# Altium footprint library 17-Relays.PcbLib: 68 footprints (part 4 of 5)
Each footprint in its own frame and in the unit in brackets; x right, y up, seen from the top. Pads: shape width x height; smd on the part's side, far side on the other; paste and mask are expansions set on the pad; w line width, h text height; cw(c..) or ccw(c..) is an arc to the next point about the centre after c.
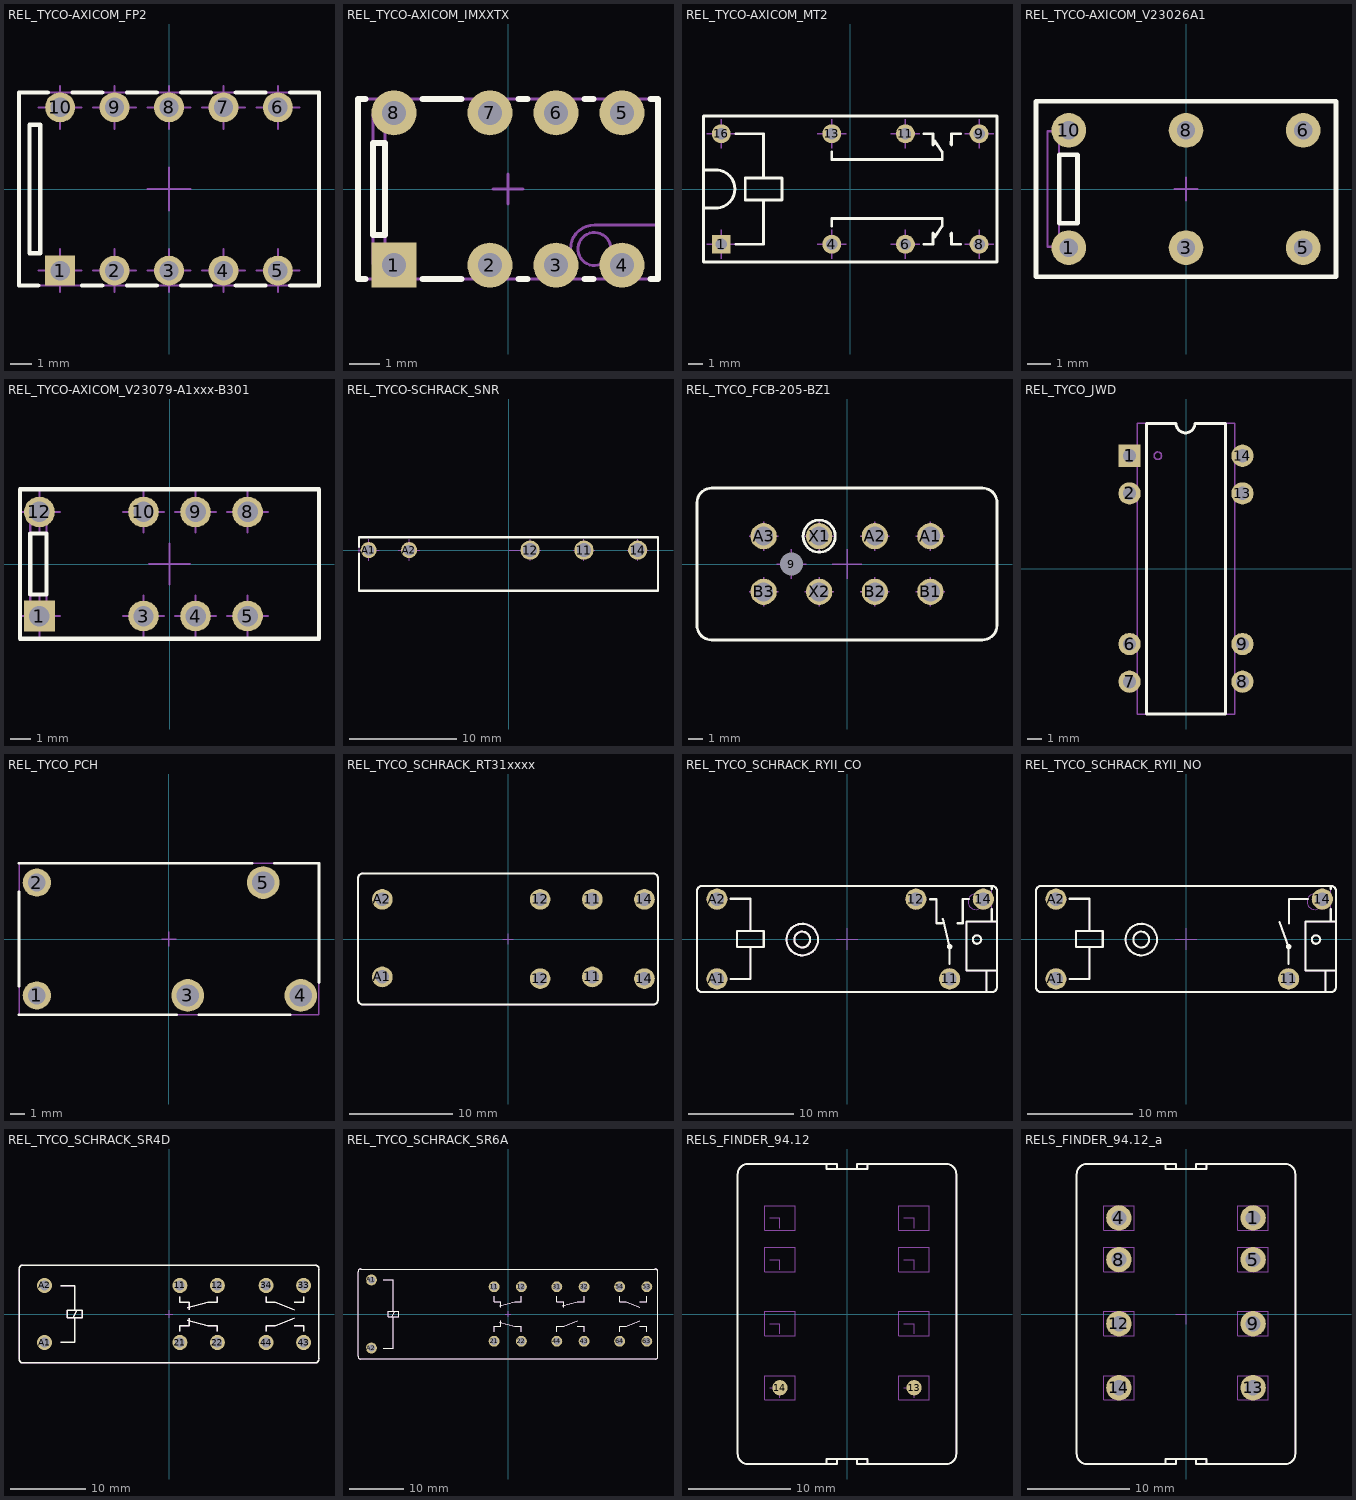
[diagram p3: the footprints below, top view; thin cyan lines are the x and y axes]

## REL_TYCO-AXICOM_FP2 [mm] "Relay, 10 Leads, Row Spacing 7.62 mm; Body 14mm x 9mm, AXICOM FP2 Serie"
height 5.1
pads (10):
  rect 1.4x1.4 hole 0.9: 1(-5.08,-3.81)
  round 1.4 hole 0.9: 2(-2.54,-3.81) 3(0,-3.81) 4(2.54,-3.81) 5(5.08,-3.81) 6(5.08,3.81) 7(2.54,3.81) 8(0,3.81) 9(-2.54,3.81) 10(-5.08,3.81)
Top Overlay:
  lines w0.2: -6.096,-4.5 -7,-4.5 -7,4.5 -5.658,4.5 ; -4.502,4.5 -3.118,4.5 ; -4.064,-4.5 -3.118,-4.5 ; -1.962,-4.5 -0.578,-4.5 ; -1.962,4.5 -0.578,4.5 ; 0.578,-4.5 1.962,-4.5 ; 0.578,4.5 1.962,4.5 ; 3.118,-4.5 4.502,-4.5 ; 3.118,4.5 4.502,4.5 ; 5.658,-4.5 7,-4.5 7,4.5 5.658,4.5 ; -6.51,-3 -6.51,3 -6.01,3 -6.01,-3 -6.51,-3
Mechanical 8:
  lines w0.1: -6.08,-3.81 -5.08,-3.81 ; -6.08,3.81 -5.08,3.81 ; -5.08,-4.81 -5.08,-3.81 ; -5.08,-2.81 -5.08,-3.81 ; -5.08,2.81 -5.08,3.81 ; -5.08,4.81 -5.08,3.81 ; -4.08,-3.81 -5.08,-3.81 ; -4.08,3.81 -5.08,3.81 ; -3.54,-3.81 -2.54,-3.81 ; -3.54,3.81 -2.54,3.81 ; -2.54,-4.81 -2.54,-3.81 ; -2.54,-2.81 -2.54,-3.81 ; -2.54,2.81 -2.54,3.81 ; -2.54,4.81 -2.54,3.81 ; -1.54,-3.81 -2.54,-3.81 ; -1.54,3.81 -2.54,3.81 ; -1,-3.81 0,-3.81 ; -1,0 0,0 ; -1,3.81 0,3.81 ; 0,-4.81 0,-3.81 ; 0,-2.81 0,-3.81 ; 0,-1 0,0 ; 0,1 0,0 ; 0,2.81 0,3.81 ; 0,4.81 0,3.81 ; 1,-3.81 0,-3.81 ; 1,0 0,0 ; 1,3.81 0,3.81 ; 1.54,-3.81 2.54,-3.81 ; 1.54,3.81 2.54,3.81 ; 2.54,-4.81 2.54,-3.81 ; 2.54,-2.81 2.54,-3.81 ; 2.54,2.81 2.54,3.81 ; 2.54,4.81 2.54,3.81 ; 3.54,-3.81 2.54,-3.81 ; 3.54,3.81 2.54,3.81 ; 4.08,-3.81 5.08,-3.81 ; 4.08,3.81 5.08,3.81 ; 5.08,-4.81 5.08,-3.81 ; 5.08,-2.81 5.08,-3.81 ; 5.08,2.81 5.08,3.81 ; 5.08,4.81 5.08,3.81 ; 6.08,-3.81 5.08,-3.81 ; 6.08,3.81 5.08,3.81
Mechanical 14:
  lines w0.1: -7,-4.5 -7,4.5 7,4.5 7,-4.5 -7,-4.5 ; -6.51,-3 -6.51,3 -6.01,3 -6.01,-3 -6.51,-3
3D body "REL_TYCO-AXICOM_FP2.stp": height 5.2, standoff -3.5, extent -7.01,-4.5 6.99,4.5

## REL_TYCO-AXICOM_IMXXTX [mm] "Relay, 8 Leads, Row Spacing 5.08 mm; Body 14.5mm x 7.2mm, AXICOM P2 Serie"
height 9.9
pads (8):
  rect 1.5x1.5 hole 0.8: 1(-3.8,-2.54)
  round 1.5 hole 0.8: 2(-0.6,-2.54) 3(1.6,-2.54) 4(3.8,-2.54) 5(3.8,2.54) 6(1.6,2.54) 7(-0.6,2.54) 8(-3.8,2.54)
Top Overlay:
  lines w0.2: -4.744,-3 -5,-3 -5,3 -4.744,3 ; -2.856,-3 -1.544,-3 ; -2.856,3 -1.544,3 ; 0.344,-3 0.656,-3 ; 0.344,3 0.656,3 ; 2.544,-3 2.856,-3 ; 2.544,3 2.856,3 ; 4.744,-3 5,-3 5,3 4.744,3 ; -4.5,-1.534 -4.1,-1.534 -4.1,1.534 -4.5,1.534 -4.5,-1.534
Mechanical 8:
  lines w0.1: -4.3,-2.54 -3.8,-2.54 ; -4.3,2.54 -3.8,2.54 ; -3.8,-3.04 -3.8,-2.54 ; -3.8,-2.04 -3.8,-2.54 ; -3.8,2.04 -3.8,2.54 ; -3.8,3.04 -3.8,2.54 ; -3.3,-2.54 -3.8,-2.54 ; -3.3,2.54 -3.8,2.54 ; -1.1,-2.54 -0.6,-2.54 ; -1.1,2.54 -0.6,2.54 ; -0.6,-3.04 -0.6,-2.54 ; -0.6,-2.04 -0.6,-2.54 ; -0.6,2.04 -0.6,2.54 ; -0.6,3.04 -0.6,2.54 ; -0.5,0 0,0 ; -0.1,-2.54 -0.6,-2.54 ; -0.1,2.54 -0.6,2.54 ; 0,-0.5 0,0 ; 0,0.5 0,0 ; 0.5,0 0,0 ; 1.1,-2.54 1.6,-2.54 ; 1.1,2.54 1.6,2.54 ; 1.6,-3.04 1.6,-2.54 ; 1.6,-2.04 1.6,-2.54 ; 1.6,2.04 1.6,2.54 ; 1.6,3.04 1.6,2.54 ; 2.1,-2.54 1.6,-2.54 ; 2.1,2.54 1.6,2.54 ; 3.3,-2.54 3.8,-2.54 ; 3.3,2.54 3.8,2.54 ; 3.8,-3.04 3.8,-2.54 ; 3.8,-2.04 3.8,-2.54 ; 3.8,2.04 3.8,2.54 ; 3.8,3.04 3.8,2.54 ; 4.3,-2.54 3.8,-2.54 ; 4.3,2.54 3.8,2.54
Mechanical 14:
  circle w0.1: c2.88,-2 r0.55
  lines w0.1: 2.08,-3 2.08,-2 cw(c2.88,-2) 2.88,-1.2 5,-1.2 ; -5,-3 -5,3 5,3 5,-3 -5,-3 ; -4.5,-2.5 -4.1,-2.5 -4.1,2.5 -4.5,2.5 -4.5,-2.5
3D body "REL_TYCO-AXICOM_IMXXTX.stp": height 5.65, standoff -2.6, extent -5,-3 5,3

## REL_TYCO-AXICOM_MT2 [mm] "8 Leads, Row Spacing 7.62 mm; Body 20.25mm x 10.05mm, AXICOM MT2 Serie"
height 11.2
pads (8):
  rect 1.3x1.3 hole 0.8: 1(-8.89,-3.81)
  round 1.3 hole 0.8: 4(-1.27,-3.81) 6(3.81,-3.81) 8(8.89,-3.81) 9(8.89,3.81) 11(3.81,3.81) 13(-1.27,3.81) 16(-8.89,3.81)
Top Overlay:
  lines w0.2: -10.125,-1.3 -9.125,-1.3 ccw(c-9.257,0) -9.125,1.3 -10.125,1.3 ; -7.874,-3.81 -5.969,-3.81 -5.969,-0.762 ; -7.874,3.81 -5.969,3.81 -5.969,0.762 ; -1.27,-2.54 -1.27,-2.032 6.35,-2.032 6.35,-2.54 5.842,-3.302 ; -1.27,2.54 -1.27,2.032 6.35,2.032 6.35,2.54 5.842,3.302 ; 5.08,-3.81 5.715,-3.81 5.715,-3.048 cw(c5.588,-3.175) 5.715,-3.302 ; 5.08,3.81 5.715,3.81 5.715,3.048 ccw(c5.588,3.175) 5.715,3.302 ; 6.985,-3.302 cw(c7.112,-3.175) 6.985,-3.048 6.985,-3.81 7.62,-3.81 ; 6.985,3.302 ccw(c7.112,3.175) 6.985,3.048 6.985,3.81 7.62,3.81 ; -10.125,-5.025 -10.125,5.025 10.125,5.025 10.125,-5.025 -10.125,-5.025 ; -7.239,-0.762 -4.699,-0.762 -4.699,0.762 -7.239,0.762 -7.239,-0.762
Mechanical 8:
  lines w0.1: -9.89,-3.81 -8.89,-3.81 ; -9.89,3.81 -8.89,3.81 ; -9.14,3.96 -8.64,3.66 ; -8.89,-4.81 -8.89,-3.81 ; -8.89,-2.81 -8.89,-3.81 ; -8.89,2.81 -8.89,3.81 ; -8.89,4.81 -8.89,3.81 ; -7.89,-3.81 -8.89,-3.81 ; -7.89,3.81 -8.89,3.81 ; -2.27,-3.81 -1.27,-3.81 ; -2.27,3.81 -1.27,3.81 ; -1.27,-4.81 -1.27,-3.81 ; -1.27,-2.81 -1.27,-3.81 ; -1.27,2.81 -1.27,3.81 ; -1.27,4.81 -1.27,3.81 ; -0.27,-3.81 -1.27,-3.81 ; -0.27,3.81 -1.27,3.81 ; 2.81,-3.81 3.81,-3.81 ; 2.81,3.81 3.81,3.81 ; 3.81,-4.81 3.81,-3.81 ; 3.81,-2.81 3.81,-3.81 ; 3.81,2.81 3.81,3.81 ; 3.81,4.81 3.81,3.81 ; 4.81,-3.81 3.81,-3.81 ; 4.81,3.81 3.81,3.81 ; 7.89,-3.81 8.89,-3.81 ; 7.89,3.81 8.89,3.81 ; 8.89,-4.81 8.89,-3.81 ; 8.89,-2.81 8.89,-3.81 ; 8.89,2.81 8.89,3.81 ; 8.89,4.81 8.89,3.81 ; 9.89,-3.81 8.89,-3.81 ; 9.89,3.81 8.89,3.81
Mechanical 14:
  lines w0.1: -10.125,-1.3 -9.125,-1.3 ccw(c-9.257,0) -9.125,1.3 -10.125,1.3 ; -7.874,-3.81 -5.969,-3.81 -5.969,-0.762 ; -7.874,3.81 -5.969,3.81 -5.969,0.762 ; -1.27,-2.54 -1.27,-2.032 6.35,-2.032 6.35,-2.54 5.842,-3.302 ; -1.27,2.54 -1.27,2.032 6.35,2.032 6.35,2.54 5.842,3.302 ; 5.08,-3.81 5.715,-3.81 5.715,-3.048 cw(c5.588,-3.175) 5.715,-3.302 ; 5.08,3.81 5.715,3.81 5.715,3.048 ccw(c5.588,3.175) 5.715,3.302 ; 6.985,-3.302 cw(c7.112,-3.175) 6.985,-3.048 6.985,-3.81 7.62,-3.81 ; 6.985,3.302 ccw(c7.112,3.175) 6.985,3.048 6.985,3.81 7.62,3.81 ; -10.125,-5.025 -10.125,5.025 10.125,5.025 10.125,-5.025 -10.125,-5.025 ; -7.239,-0.762 -4.699,-0.762 -4.699,0.762 -7.239,0.762 -7.239,-0.762
3D body "REL_TYCO-AXICOM_MT2.stp": height 11.7, standoff -3.5, extent -10.125,-5.025 10.125,5.025

## REL_TYCO-AXICOM_V23026A1 [mm] "Relay, 6 Leads, Row Spacing 5.08 mm; Body 13mm x 7.6mm, AXICOM V23026 Serie"
height 6.9
pads (6):
  round 1.5 hole 0.8: 1(-5.08,-2.54) 3(0,-2.54) 5(5.08,-2.54) 6(5.08,2.54) 8(0,2.54) 10(-5.08,2.54)
Top Overlay:
  lines w0.2: -6.5,-3.8 -6.5,3.8 6.5,3.8 6.5,-3.8 -6.5,-3.8 ; -5.5,-1.49 -5.5,1.49 -4.7,1.49 -4.7,-1.49 -5.5,-1.49
Mechanical 8:
  lines w0.1: -5.58,-2.54 -5.08,-2.54 ; -5.58,2.54 -5.08,2.54 ; -5.08,-3.04 -5.08,-2.54 ; -5.08,-2.04 -5.08,-2.54 ; -5.08,2.04 -5.08,2.54 ; -5.08,3.04 -5.08,2.54 ; -4.58,-2.54 -5.08,-2.54 ; -4.58,2.54 -5.08,2.54 ; -0.5,-2.54 0,-2.54 ; -0.5,0 0,0 ; -0.5,2.54 0,2.54 ; 0,-3.04 0,-2.54 ; 0,-2.04 0,-2.54 ; 0,-0.5 0,0 ; 0,0.5 0,0 ; 0,2.04 0,2.54 ; 0,3.04 0,2.54 ; 0.5,-2.54 0,-2.54 ; 0.5,0 0,0 ; 0.5,2.54 0,2.54 ; 4.58,-2.54 5.08,-2.54 ; 4.58,2.54 5.08,2.54 ; 5.08,-3.04 5.08,-2.54 ; 5.08,-2.04 5.08,-2.54 ; 5.08,2.04 5.08,2.54 ; 5.08,3.04 5.08,2.54 ; 5.58,-2.54 5.08,-2.54 ; 5.58,2.54 5.08,2.54
Mechanical 14:
  lines w0.1: -6.5,-3.8 -6.5,3.8 6.5,3.8 6.5,-3.8 -6.5,-3.8 ; -6,-2.5 -5.5,-2.5 -5.5,2.5 -6,2.5 -6,-2.5
3D body "REL_TYCO-AXICOM_V23026A1.stp": height 6.9, standoff -3.5, extent -6.5,-3.8 6.5,3.8

## REL_TYCO-AXICOM_V23079-A1xxx-B301 [mm] "Relay, 8 Leads, Row Spacing 5.08 mm; Body 14.5mm x 7.2mm, AXICOM P2 Serie"
height 9.9
pads (8):
  rect 1.5x1.5 hole 1: 1(-6.35,-2.54)
  round 1.5 hole 1: 3(-1.27,-2.54) 4(1.27,-2.54) 5(3.81,-2.54) 8(3.81,2.54) 9(1.27,2.54) 10(-1.27,2.54) 12(-6.35,2.54)
Top Overlay:
  lines w0.2: -7.3,-3.65 -7.3,3.65 7.3,3.65 7.3,-3.65 -7.3,-3.65 ; -6.8,-1.49 -6,-1.49 -6,1.49 -6.8,1.49 -6.8,-1.49
Mechanical 8:
  lines w0.1: -7.35,-2.54 -6.35,-2.54 ; -7.35,2.54 -6.35,2.54 ; -6.35,-3.54 -6.35,-2.54 ; -6.35,-1.54 -6.35,-2.54 ; -6.35,1.54 -6.35,2.54 ; -6.35,3.54 -6.35,2.54 ; -5.35,-2.54 -6.35,-2.54 ; -5.35,2.54 -6.35,2.54 ; -2.27,-2.54 -1.27,-2.54 ; -2.27,2.54 -1.27,2.54 ; -1.27,-3.54 -1.27,-2.54 ; -1.27,-1.54 -1.27,-2.54 ; -1.27,1.54 -1.27,2.54 ; -1.27,3.54 -1.27,2.54 ; -1,0 0,0 ; -0.27,-2.54 -1.27,-2.54 ; -0.27,2.54 -1.27,2.54 ; 0,-1 0,0 ; 0,1 0,0 ; 0.27,-2.54 1.27,-2.54 ; 0.27,2.54 1.27,2.54 ; 1,0 0,0 ; 1.27,-3.54 1.27,-2.54 ; 1.27,-1.54 1.27,-2.54 ; 1.27,1.54 1.27,2.54 ; 1.27,3.54 1.27,2.54 ; 2.27,-2.54 1.27,-2.54 ; 2.27,2.54 1.27,2.54 ; 2.81,-2.54 3.81,-2.54 ; 2.81,2.54 3.81,2.54 ; 3.81,-3.54 3.81,-2.54 ; 3.81,-1.54 3.81,-2.54 ; 3.81,1.54 3.81,2.54 ; 3.81,3.54 3.81,2.54 ; 4.81,-2.54 3.81,-2.54 ; 4.81,2.54 3.81,2.54
Mechanical 14:
  lines w0.1: -7.3,-3.65 7.3,-3.65 7.3,3.65 -7.3,3.65 -7.3,-3.65 ; -6.8,-2.5 -6.8,2.5 -6,2.5 -6,-2.5 -6.8,-2.5
3D body "REL_TYCO-AXICOM_V23079-A1xxx-B301.stp": height 9.9, standoff -3.8, extent -7.3,-3.65 7.3,3.65

## REL_TYCO-SCHRACK_SNR [mm] "5 Leads, Body 28.0 x 5mm, Slim PCB Relay SNR Serie"
height 15
pads (5):
  round 1.8 hole 1.3: 11(7.06,0) 12(2.02,0) 14(12.1,0)
  round 1.5 hole 1: A1(-13.1,0) A2(-9.32,0)
Top Overlay:
  lines w0.2: -14,-0.304 -14,-3.8 14,-3.8 14,1.2 -14,1.2 -14,0.304
Mechanical 8:
  lines w0.1: -14.1,0 -13.1,0 ; -13.1,-1 -13.1,0 ; -13.1,1 -13.1,0 ; -12.1,0 -13.1,0 ; -10.32,0 -9.32,0 ; -9.32,-1 -9.32,0 ; -9.32,1 -9.32,0 ; -8.32,0 -9.32,0 ; 0,0 2.02,0 ; 2.02,-1 2.02,0 ; 2.02,1 2.02,0 ; 3.02,0 2.02,0 ; 6.06,0 7.06,0 ; 7.06,-1 7.06,0 ; 7.06,1 7.06,0 ; 8.06,0 7.06,0 ; 11.1,0 12.1,0 ; 12.1,-1 12.1,0 ; 12.1,1 12.1,0 ; 13.1,0 12.1,0
Mechanical 14:
  lines w0.1: -14,-3.8 -14,1.2 14,1.2 14,-3.8 -14,-3.8
3D body "REL_TYCO-CHRACK_SNR.stp": height 15, standoff -3.5, extent -14,-3.8 14,1.2

## REL_TYCO_FCB-205-BZ1 [mm] "Relay, 8 Leads, Row Spacing 3.81 mm; Body 20.57mm x 10.41mm, AXICOM FCB-205-BZ1"
height 16.26
pads (9):
  round 1 hole 1.6 unplated mask+0.3: 9(-3.81,0)
  round 1.8 hole 1.3: A1(5.715,1.905) A2(1.905,1.905) A3(-5.715,1.905) B1(5.715,-1.905) B2(1.905,-1.905) B3(-5.715,-1.905) X1(-1.905,1.905) X2(-1.905,-1.905)
Top Overlay:
  circle w0.2: c-1.905,1.905 r1.1
  lines w0.2: -10.285,-4.205 ccw(c-9.285,-4.205) -9.285,-5.205 9.285,-5.205 ccw(c9.285,-4.205) 10.285,-4.205 10.285,4.205 ccw(c9.285,4.205) 9.285,5.205 -9.285,5.205 ccw(c-9.285,4.205) -10.285,4.205 -10.285,-4.205
Mechanical 8:
  lines w0.1: -6.715,-1.905 -5.715,-1.905 ; -6.715,1.905 -5.715,1.905 ; -5.715,-2.905 -5.715,-1.905 ; -5.715,-0.905 -5.715,-1.905 ; -5.715,0.905 -5.715,1.905 ; -5.715,2.905 -5.715,1.905 ; -4.81,0 -3.81,0 ; -4.715,-1.905 -5.715,-1.905 ; -4.715,1.905 -5.715,1.905 ; -3.81,-1 -3.81,0 ; -3.81,1 -3.81,0 ; -2.905,-1.905 -1.905,-1.905 ; -2.905,1.905 -1.905,1.905 ; -2.81,0 -3.81,0 ; -1.905,-2.905 -1.905,-1.905 ; -1.905,-0.905 -1.905,-1.905 ; -1.905,0.905 -1.905,1.905 ; -1.905,2.905 -1.905,1.905 ; -1,0 0,0 ; -0.905,-1.905 -1.905,-1.905 ; -0.905,1.905 -1.905,1.905 ; 0,-1 0,0 ; 0,1 0,0 ; 0.905,-1.905 1.905,-1.905 ; 0.905,1.905 1.905,1.905 ; 1,0 0,0 ; 1.905,-2.905 1.905,-1.905 ; 1.905,-0.905 1.905,-1.905 ; 1.905,0.905 1.905,1.905 ; 1.905,2.905 1.905,1.905 ; 2.905,-1.905 1.905,-1.905 ; 2.905,1.905 1.905,1.905 ; 4.715,-1.905 5.715,-1.905 ; 4.715,1.905 5.715,1.905 ; 5.715,-2.905 5.715,-1.905 ; 5.715,-0.905 5.715,-1.905 ; 5.715,0.905 5.715,1.905 ; 5.715,2.905 5.715,1.905 ; 6.715,-1.905 5.715,-1.905 ; 6.715,1.905 5.715,1.905
Mechanical 14:
  circle w0.1: c-1.905,1.905 r1.1
  circle w0.1: c-1.905,1.905 r0.52
  circle w0.1: c-3.81,0 r0.66
  circle w0.1: c-5.715,1.905 r0.52
  circle w0.1: c1.905,1.905 r0.52
  circle w0.1: c5.715,1.905 r0.52
  circle w0.1: c5.715,-1.905 r0.52
  circle w0.1: c1.905,-1.905 r0.52
  circle w0.1: c-1.905,-1.905 r0.52
  circle w0.1: c-5.715,-1.905 r0.52
  lines w0.1: -10.285,-4.205 ccw(c-9.285,-4.205) -9.285,-5.205 9.285,-5.205 ccw(c9.285,-4.205) 10.285,-4.205 10.285,4.205 ccw(c9.285,4.205) 9.285,5.205 -9.285,5.205 ccw(c-9.285,4.205) -10.285,4.205 -10.285,-4.205
3D body "REL_TYCO_FCB-205-BZ1.stp": height 16.26, standoff -3.4, extent -10.285,-5.205 10.285,5.205

## REL_TYCO_JWD [mm] "DIP 14 Leads, Row Spacing 7.62 mm; Pitch 2.54 mm"
height 8
pads (8):
  rect 1.5x1.5 hole 0.9: 1(-3.81,7.62)
  round 1.5 hole 0.9: 2(-3.81,5.08) 6(-3.81,-5.08) 7(-3.81,-7.62) 8(3.81,-7.62) 9(3.81,-5.08) 13(3.81,5.08) 14(3.81,7.62)
Top Overlay:
  lines w0.2: -0.685,9.8 -2.65,9.8 -2.65,-9.8 2.65,-9.8 2.65,9.8 ; -0.67,9.8 ccw(c-0.035,9.8) 0.6,9.8 2.615,9.8
Mechanical 14:
  circle w0.1: c-1.905,7.62 r0.254
  lines w0.1: -3.3,-9.8 -3.3,9.8 -0.67,9.8 ccw(c-0.035,9.8) 0.6,9.8 3.3,9.8 3.3,-9.8 -3.3,-9.8
3D body "REL_TYCO_JWD.stp": height 8, standoff -3.3, extent -3.935,-9.845 3.935,9.845

## REL_TYCO_PCH [mm] "5 Leads, Row Spacing 7.62 mm; Body 20mm x 10mm, TYCO PCH Serie"
height 15.2
pads (5):
  round 1.9 hole 1.2: 1(-8.9,-3.8) 2(-8.9,3.8)
  round 2.2 hole 1.5: 3(1.26,-3.8) 4(8.88,-3.8) 5(6.34,3.8)
Top Overlay:
  lines w0.2: -10.1,-5.1 0.512,-5.1 ; -10.1,-3.182 -10.1,3.182 ; -10.1,5.1 5.592,5.1 ; 2.008,-5.1 8.132,-5.1 ; 7.088,5.1 10.1,5.1 10.1,-2.927
Mechanical 8:
  lines w0.1: -9.4,-3.8 -8.9,-3.8 ; -9.4,3.8 -8.9,3.8 ; -8.9,-4.3 -8.9,-3.8 ; -8.9,-3.3 -8.9,-3.8 ; -8.9,3.3 -8.9,3.8 ; -8.9,4.3 -8.9,3.8 ; -8.4,-3.8 -8.9,-3.8 ; -8.4,3.8 -8.9,3.8 ; -0.5,0 0,0 ; 0,-0.5 0,0 ; 0,0.5 0,0 ; 0.5,0 0,0 ; 0.76,-3.8 1.26,-3.8 ; 1.26,-4.3 1.26,-3.8 ; 1.26,-3.3 1.26,-3.8 ; 1.76,-3.8 1.26,-3.8 ; 5.84,3.8 6.34,3.8 ; 6.34,3.3 6.34,3.8 ; 6.34,4.3 6.34,3.8 ; 6.84,3.8 6.34,3.8 ; 8.38,-3.8 8.88,-3.8 ; 8.88,-4.3 8.88,-3.8 ; 8.88,-3.3 8.88,-3.8 ; 9.38,-3.8 8.88,-3.8
Mechanical 14:
  lines w0.1: -10.1,-5.1 -10.1,5.1 10.1,5.1 10.1,-5.1 -10.1,-5.1
3D body "REL_TYCO_PCH.stp": height 15.2, standoff -3.8, extent -10.1,-5.1 10.1,5.1

## REL_TYCO_SCHRACK_RT31xxxx [mm] "8 Leads, Row Spacing 7.62 mm; Body 29mm x 12.7mm, TYCO RT Serie"
height 15.7
pads (8):
  round 2 hole 1.3: 11(8.15,-3.67) 11(8.15,3.83) 12(3.11,-3.83) 12(3.11,3.83) 14(13.19,-3.83) 14(13.19,3.83) A1(-12.15,-3.67) A2(-12.15,3.83)
Top Overlay:
  lines w0.2: -14.5,-5.85 ccw(c-14,-5.85) -14,-6.35 14,-6.35 ccw(c14,-5.85) 14.5,-5.85 14.5,5.85 ccw(c14,5.85) 14,6.35 -14,6.35 ccw(c-14,5.85) -14.5,5.85 -14.5,-5.85
Mechanical 8:
  lines w0.1: -12.65,-3.67 -12.15,-3.67 ; -12.65,3.83 -12.15,3.83 ; -12.15,-4.17 -12.15,-3.67 ; -12.15,-3.17 -12.15,-3.67 ; -12.15,3.33 -12.15,3.83 ; -12.15,4.33 -12.15,3.83 ; -11.65,-3.67 -12.15,-3.67 ; -11.65,3.83 -12.15,3.83 ; -0.5,0 0,0 ; 0,-0.5 0,0 ; 0,0.5 0,0 ; 0.5,0 0,0 ; 2.61,-3.83 3.11,-3.83 ; 2.61,3.83 3.11,3.83 ; 3.11,-4.33 3.11,-3.83 ; 3.11,-3.33 3.11,-3.83 ; 3.11,3.33 3.11,3.83 ; 3.11,4.33 3.11,3.83 ; 3.61,-3.83 3.11,-3.83 ; 3.61,3.83 3.11,3.83 ; 7.65,-3.67 8.15,-3.67 ; 7.65,3.83 8.15,3.83 ; 8.15,-4.17 8.15,-3.67 ; 8.15,-3.17 8.15,-3.67 ; 8.15,3.33 8.15,3.83 ; 8.15,4.33 8.15,3.83 ; 8.65,-3.67 8.15,-3.67 ; 8.65,3.83 8.15,3.83 ; 12.69,-3.83 13.19,-3.83 ; 12.69,3.83 13.19,3.83 ; 13.19,-4.33 13.19,-3.83 ; 13.19,-3.33 13.19,-3.83 ; 13.19,3.33 13.19,3.83 ; 13.19,4.33 13.19,3.83 ; 13.69,-3.83 13.19,-3.83 ; 13.69,3.83 13.19,3.83
Mechanical 14:
  lines w0.1: -14.5,-5.85 ccw(c-14,-5.85) -14,-6.35 14,-6.35 ccw(c14,-5.85) 14.5,-5.85 14.5,5.85 ccw(c14,5.85) 14,6.35 -14,6.35 ccw(c-14,5.85) -14.5,5.85 -14.5,-5.85
3D body "REL_TYCO_SCHRACK_RT314012.stp": height 15.7, standoff -3.6, extent -14.5,-6.35 14.5,6.35

## REL_TYCO_SCHRACK_RYII_CO [mm] "5 Leads, Row Spacing 7.62 mm; Body 28.5mm x 10.1mm, TYCO RYII Serie, CO Contact"
height 12.3
pads (5):
  round 2 hole 1.3: 11(9.75,-3.79) 12(6.55,3.79) 14(12.95,3.79) A1(-12.35,-3.79) A2(-12.35,3.79)
Top Overlay:
  circle w0.2: c9.75,-0.725 r0.159
  circle w0.2: c-4.25,-0.05 r0.75
  circle w0.2: c-4.25,-0.05 r1.5
  circle w0.2: c12.35,-0.05 r0.4
  lines w0.2: -11.084,-3.8 -9.179,-3.8 -9.179,-0.752 ; -11.084,3.82 -9.179,3.82 -9.179,0.772 ; 7.9,3.78 8.5,3.78 8.5,1.5 9,1.5 ; 9.1,1.9 9.75,-0.75 9.75,-2.39 ; 10.5,1.5 11,1.5 11,3.8 11.6,3.8 ; 13.25,-5.05 13.25,-3 ; 13.75,1.65 13.75,2.83 ; 13.75,4.75 13.75,5.043 ; 14.25,-3 11.35,-3 11.35,1.65 14.25,1.65 ; -14.25,-4.55 ccw(c-13.75,-4.55) -13.75,-5.05 13.75,-5.05 ccw(c13.75,-4.55) 14.25,-4.55 14.25,4.55 ccw(c13.75,4.55) 13.75,5.05 -13.75,5.05 ccw(c-13.75,4.55) -14.25,4.55 -14.25,-4.55 ; -10.449,-0.752 -10.449,0.772 -7.909,0.772 -7.909,-0.752 -10.449,-0.752
Mechanical 8:
  lines w0.1: -13.35,-3.79 -12.35,-3.79 ; -13.35,3.79 -12.35,3.79 ; -12.35,-4.79 -12.35,-3.79 ; -12.35,-2.79 -12.35,-3.79 ; -12.35,2.79 -12.35,3.79 ; -12.35,4.79 -12.35,3.79 ; -11.35,-3.79 -12.35,-3.79 ; -11.35,3.79 -12.35,3.79 ; -1,0 0,0 ; 0,-1 0,0 ; 0,1 0,0 ; 1,0 0,0 ; 5.55,3.79 6.55,3.79 ; 6.55,2.79 6.55,3.79 ; 6.55,4.79 6.55,3.79 ; 7.55,3.79 6.55,3.79 ; 8.75,-3.79 9.75,-3.79 ; 9.75,-4.79 9.75,-3.79 ; 9.75,-2.79 9.75,-3.79 ; 10.75,-3.79 9.75,-3.79 ; 11.95,3.79 12.95,3.79 ; 12.95,2.79 12.95,3.79 ; 12.95,4.79 12.95,3.79 ; 13.95,3.79 12.95,3.79
Mechanical 14:
  circle w0.1: c9.75,-0.725 r0.159
  circle w0.2: c-4.25,-0.05 r0.75
  circle w0.2: c-4.25,-0.05 r1.5
  circle w0.1: c12.35,-0.05 r0.4
  circle w0.1: c12.25,3.55 r0.75
  lines w0.1: -11.084,-3.8 -9.179,-3.8 -9.179,-0.752 ; -11.084,3.82 -9.179,3.82 -9.179,0.772 ; 7.9,3.78 8.5,3.78 8.5,1.5 9,1.5 ; 9.1,1.9 9.75,-0.75 9.75,-2.39 ; 10.5,1.5 11,1.5 11,3.8 11.6,3.8 ; 13.25,-5.05 13.25,-3 ; 13.75,1.65 13.75,5.043 ; 14.25,-3 11.35,-3 11.35,1.65 14.25,1.65 ; -14.25,-4.55 ccw(c-13.75,-4.55) -13.75,-5.05 13.75,-5.05 ccw(c13.75,-4.55) 14.25,-4.55 14.25,4.55 ccw(c13.75,4.55) 13.75,5.05 -13.75,5.05 ccw(c-13.75,4.55) -14.25,4.55 -14.25,-4.55 ; -10.449,-0.752 -10.449,0.772 -7.909,0.772 -7.909,-0.752 -10.449,-0.752
3D body "REL_TYCO_SCHRACK_RYII_CO.stp": height 12.3, standoff -3.2, extent -14.25,-5.05 14.25,5.05

## REL_TYCO_SCHRACK_RYII_NO [mm] "4 Leads, Row Spacing 7.62 mm; Body 28.5mm x 10.1mm, TYCO RYII Serie, NO Contact"
height 12.3
pads (4):
  round 2 hole 1.3: 11(9.75,-3.79) 14(12.95,3.79) A1(-12.35,-3.79) A2(-12.35,3.79)
Top Overlay:
  circle w0.2: c12.35,-0.05 r0.4
  circle w0.2: c-4.25,-0.05 r1.5
  circle w0.2: c-4.25,-0.05 r0.75
  circle w0.2: c9.75,-0.725 r0.159
  lines w0.2: -11.084,-3.8 -9.179,-3.8 -9.179,-0.752 ; -11.084,3.82 -9.179,3.82 -9.179,0.772 ; 8.9,1.6 9.75,-0.75 9.75,-2.39 ; 9.8,1.5 9.8,3.8 11.6,3.8 ; 13.25,-5.05 13.25,-3 ; 13.75,1.65 13.75,2.83 ; 13.75,4.75 13.75,5.043 ; 14.25,-3 11.35,-3 11.35,1.65 14.25,1.65 ; -14.25,-4.55 ccw(c-13.75,-4.55) -13.75,-5.05 13.75,-5.05 ccw(c13.75,-4.55) 14.25,-4.55 14.25,4.55 ccw(c13.75,4.55) 13.75,5.05 -13.75,5.05 ccw(c-13.75,4.55) -14.25,4.55 -14.25,-4.55 ; -10.449,-0.752 -7.909,-0.752 -7.909,0.772 -10.449,0.772 -10.449,-0.752
Mechanical 8:
  lines w0.1: -13.35,-3.79 -12.35,-3.79 ; -13.35,3.79 -12.35,3.79 ; -12.35,-4.79 -12.35,-3.79 ; -12.35,-2.79 -12.35,-3.79 ; -12.35,2.79 -12.35,3.79 ; -12.35,4.79 -12.35,3.79 ; -11.35,-3.79 -12.35,-3.79 ; -11.35,3.79 -12.35,3.79 ; -1,0 0,0 ; 0,-1 0,0 ; 0,1 0,0 ; 1,0 0,0 ; 8.75,-3.79 9.75,-3.79 ; 9.75,-4.79 9.75,-3.79 ; 9.75,-2.79 9.75,-3.79 ; 10.75,-3.79 9.75,-3.79 ; 11.95,3.79 12.95,3.79 ; 12.95,2.79 12.95,3.79 ; 12.95,4.79 12.95,3.79 ; 13.95,3.79 12.95,3.79
Mechanical 14:
  circle w0.1: c12.25,3.55 r0.75
  circle w0.1: c12.35,-0.05 r0.4
  circle w0.1: c-4.25,-0.05 r1.5
  circle w0.1: c-4.25,-0.05 r0.75
  circle w0.1: c9.75,-0.725 r0.159
  lines w0.1: -11.084,-3.8 -9.179,-3.8 -9.179,-0.752 ; -11.084,3.82 -9.179,3.82 -9.179,0.772 ; 8.9,1.6 9.75,-0.75 9.75,-2.39 ; 9.8,1.5 9.8,3.8 11.6,3.8 ; 13.25,-5.05 13.25,-3 ; 13.75,1.65 13.75,5.043 ; 14.25,-3 11.35,-3 11.35,1.65 14.25,1.65 ; -14.25,-4.55 ccw(c-13.75,-4.55) -13.75,-5.05 13.75,-5.05 ccw(c13.75,-4.55) 14.25,-4.55 14.25,4.55 ccw(c13.75,4.55) 13.75,5.05 -13.75,5.05 ccw(c-13.75,4.55) -14.25,4.55 -14.25,-4.55 ; -10.449,-0.752 -7.909,-0.752 -7.909,0.772 -10.449,0.772 -10.449,-0.752
3D body "REL_TYCO_SCHRACK_RYII_NO.stp": height 12.3, standoff -3.2, extent -14.25,-5 14.25,5.1

## REL_TYCO_SCHRACK_SR4D [mm] "10 Leads, Row Spacing 7.6 mm; Body 40mm x 13mm, TYCO SR4 Serie"
height 16.5
pads (10):
  round 2 hole 1.3: 11(1.45,3.8) 12(6.45,3.8) 21(1.45,-3.8) 22(6.45,-3.8) 33(17.95,3.8) 34(12.95,3.8) 43(17.95,-3.8) 44(12.95,-3.8) A1(-16.6,-3.8) A2(-16.6,3.8)
Top Overlay:
  lines w0.2: -14.41,-3.8 -12.55,-3.8 -12.55,-0.5 ; -14.41,3.8 -12.55,3.8 -12.55,0.5 ; -12.8,-0.5 -12.3,0.5 ; 1.45,-2.3 1.45,-1.55 2.7,-1.55 2.7,-0.55 ; 1.45,2.3 1.45,1.55 2.7,1.55 2.7,0.55 ; 2.45,-0.8 5.2,-1.55 6.45,-1.55 6.45,-2.3 ; 2.45,0.8 5.2,1.55 6.45,1.55 6.45,2.3 ; 12.95,-2.3 12.95,-1.55 14.2,-1.55 16.7,-0.55 ; 12.95,2.3 12.95,1.55 14.2,1.55 16.7,0.55 ; 16.7,-1.55 17.95,-1.55 17.95,-2.3 ; 16.7,1.55 17.95,1.55 17.95,2.3 ; -20,-6 ccw(c-19.5,-6) -19.5,-6.5 19.5,-6.5 ccw(c19.5,-6) 20,-6 20,6 ccw(c19.5,6) 19.5,6.5 -19.5,6.5 ccw(c-19.5,6) -20,6 -20,-6 ; -13.55,-0.5 -13.55,0.5 -11.55,0.5 -11.55,-0.5 -13.55,-0.5
Mechanical 8:
  lines w0.1: -17.1,-3.8 -16.6,-3.8 ; -17.1,3.8 -16.6,3.8 ; -16.6,-4.3 -16.6,-3.8 ; -16.6,-3.3 -16.6,-3.8 ; -16.6,3.3 -16.6,3.8 ; -16.6,4.3 -16.6,3.8 ; -16.1,-3.8 -16.6,-3.8 ; -16.1,3.8 -16.6,3.8 ; -0.5,0 0,0 ; 0,-0.5 0,0 ; 0,0.5 0,0 ; 0.5,0 0,0 ; 0.95,-3.8 1.45,-3.8 ; 0.95,3.8 1.45,3.8 ; 1.45,-4.3 1.45,-3.8 ; 1.45,-3.3 1.45,-3.8 ; 1.45,3.3 1.45,3.8 ; 1.45,4.3 1.45,3.8 ; 1.95,-3.8 1.45,-3.8 ; 1.95,3.8 1.45,3.8 ; 5.95,-3.8 6.45,-3.8 ; 5.95,3.8 6.45,3.8 ; 6.45,-4.3 6.45,-3.8 ; 6.45,-3.3 6.45,-3.8 ; 6.45,3.3 6.45,3.8 ; 6.45,4.3 6.45,3.8 ; 6.95,-3.8 6.45,-3.8 ; 6.95,3.8 6.45,3.8 ; 12.45,-3.8 12.95,-3.8 ; 12.45,3.8 12.95,3.8 ; 12.95,-4.3 12.95,-3.8 ; 12.95,-3.3 12.95,-3.8 ; 12.95,3.3 12.95,3.8 ; 12.95,4.3 12.95,3.8 ; 13.45,-3.8 12.95,-3.8 ; 13.45,3.8 12.95,3.8 ; 17.45,-3.8 17.95,-3.8 ; 17.45,3.8 17.95,3.8 ; 17.95,-4.3 17.95,-3.8 ; 17.95,-3.3 17.95,-3.8 ; 17.95,3.3 17.95,3.8 ; 17.95,4.3 17.95,3.8 ; 18.45,-3.8 17.95,-3.8 ; 18.45,3.8 17.95,3.8
Mechanical 14:
  lines w0.1: -14.41,-3.8 -12.55,-3.8 -12.55,-0.5 ; -14.41,3.8 -12.55,3.8 -12.55,0.5 ; -12.8,-0.5 -12.3,0.5 ; 1.45,-2.3 1.45,-1.55 2.7,-1.55 2.7,-0.55 ; 1.45,2.3 1.45,1.55 2.7,1.55 2.7,0.55 ; 2.45,-0.8 5.2,-1.55 6.45,-1.55 6.45,-2.3 ; 2.45,0.8 5.2,1.55 6.45,1.55 6.45,2.3 ; 12.95,-2.3 12.95,-1.55 14.2,-1.55 16.7,-0.55 ; 12.95,2.3 12.95,1.55 14.2,1.55 16.7,0.55 ; 16.7,-1.55 17.95,-1.55 17.95,-2.3 ; 16.7,1.55 17.95,1.55 17.95,2.3 ; -20,-6 ccw(c-19.5,-6) -19.5,-6.5 19.5,-6.5 ccw(c19.5,-6) 20,-6 20,6 ccw(c19.5,6) 19.5,6.5 -19.5,6.5 ccw(c-19.5,6) -20,6 -20,-6 ; -13.55,-0.5 -13.55,0.5 -11.55,0.5 -11.55,-0.5 -13.55,-0.5
3D body "REL_TYCO_SCHRACK_SR4D4024.stp": height 16.5, standoff -3.3, extent -20,-6.5 20,6.5

## REL_TYCO_SCHRACK_SR6A [mm] "14 Leads, Row Spacing 10mm; Body 55mm x 16.5mm, TYCO SR6 Serie"
height 16.5
pads (14):
  round 2 hole 1.3: 11(-2.55,5) 12(2.45,5) 21(-2.55,-5) 22(2.45,-5) 31(8.95,5) 32(13.95,5) 43(13.95,-5) 44(8.95,-5) 53(25.45,5) 54(20.45,5) 63(25.45,-5) 64(20.45,-5) A1(-25.05,6.25) A2(-25.05,-6.25)
Top Overlay:
  lines w0.2: -22.86,-6.25 -21,-6.25 -21,-0.5 ; -22.86,6.25 -21,6.25 -21,0.5 ; -21.25,-0.5 -20.75,0.5 ; -2.55,-3.25 -2.55,-2.25 -1.3,-2.25 -1.3,-1.25 ; -2.55,3.25 -2.55,2.25 -1.3,2.25 -1.3,1.25 ; -1.55,-1.5 1.2,-2.25 2.45,-2.25 2.45,-3.25 ; -1.55,1.5 1.2,2.25 2.45,2.25 2.45,3.25 ; 8.95,-3.25 8.95,-2.25 10.2,-2.25 12.7,-1.25 ; 8.95,3.25 8.95,2.25 10.2,2.25 10.2,1.25 ; 9.95,1.5 12.7,2.25 13.95,2.25 13.95,3.25 ; 12.7,-2.25 13.95,-2.25 13.95,-3.25 ; 20.45,-3.25 20.45,-2.25 21.7,-2.25 24.2,-1.25 ; 20.45,3.25 20.45,2.25 21.7,2.25 24.2,1.25 ; 24.2,-2.25 25.45,-2.25 25.45,-3.25 ; 24.2,2.25 25.45,2.25 25.45,3.25 ; -27.5,-7.75 ccw(c-27,-7.75) -27,-8.25 27,-8.25 ccw(c27,-7.75) 27.5,-7.75 27.5,7.75 ccw(c27,7.75) 27,8.25 -27,8.25 ccw(c-27,7.75) -27.5,7.75 -27.5,-7.75 ; -22,-0.5 -20,-0.5 -20,0.5 -22,0.5 -22,-0.5
Mechanical 8:
  lines w0.1: -25.55,-6.25 -25.05,-6.25 ; -25.55,6.25 -25.05,6.25 ; -25.05,-6.75 -25.05,-6.25 ; -25.05,-5.75 -25.05,-6.25 ; -25.05,5.75 -25.05,6.25 ; -25.05,6.75 -25.05,6.25 ; -24.55,-6.25 -25.05,-6.25 ; -24.55,6.25 -25.05,6.25 ; -3.05,-5 -2.55,-5 ; -3.05,5 -2.55,5 ; -2.55,-5.5 -2.55,-5 ; -2.55,-4.5 -2.55,-5 ; -2.55,4.5 -2.55,5 ; -2.55,5.5 -2.55,5 ; -2.05,-5 -2.55,-5 ; -2.05,5 -2.55,5 ; -0.5,0 0,0 ; 0,-0.5 0,0 ; 0,0.5 0,0 ; 0.5,0 0,0 ; 1.95,-5 2.45,-5 ; 1.95,5 2.45,5 ; 2.45,-5.5 2.45,-5 ; 2.45,-4.5 2.45,-5 ; 2.45,4.5 2.45,5 ; 2.45,5.5 2.45,5 ; 2.95,-5 2.45,-5 ; 2.95,5 2.45,5 ; 8.45,-5 8.95,-5 ; 8.45,5 8.95,5 ; 8.95,-5.5 8.95,-5 ; 8.95,-4.5 8.95,-5 ; 8.95,4.5 8.95,5 ; 8.95,5.5 8.95,5 ; 9.45,-5 8.95,-5 ; 9.45,5 8.95,5 ; 13.45,-5 13.95,-5 ; 13.45,5 13.95,5 ; 13.95,-5.5 13.95,-5 ; 13.95,-4.5 13.95,-5 ; 13.95,4.5 13.95,5 ; 13.95,5.5 13.95,5 ; 14.45,-5 13.95,-5 ; 14.45,5 13.95,5 ; 19.95,-5 20.45,-5 ; 19.95,5 20.45,5 ; 20.45,-5.5 20.45,-5 ; 20.45,-4.5 20.45,-5 ; 20.45,4.5 20.45,5 ; 20.45,5.5 20.45,5 ; 20.95,-5 20.45,-5 ; 20.95,5 20.45,5 ; 24.95,-5 25.45,-5 ; 24.95,5 25.45,5 ; 25.45,-5.5 25.45,-5 ; 25.45,-4.5 25.45,-5 ; 25.45,4.5 25.45,5 ; 25.45,5.5 25.45,5 ; 25.95,-5 25.45,-5 ; 25.95,5 25.45,5
Mechanical 14:
  lines w0.1: -22.86,-6.25 -21,-6.25 -21,-0.5 ; -22.86,6.25 -21,6.25 -21,0.5 ; -21.25,-0.5 -20.75,0.5 ; -2.55,-3.25 -2.55,-2.25 -1.3,-2.25 -1.3,-1.25 ; -2.55,3.25 -2.55,2.25 -1.3,2.25 -1.3,1.25 ; -1.55,-1.5 1.2,-2.25 2.45,-2.25 2.45,-3.25 ; -1.55,1.5 1.2,2.25 2.45,2.25 2.45,3.25 ; 8.95,-3.25 8.95,-2.25 10.2,-2.25 12.7,-1.25 ; 8.95,3.25 8.95,2.25 10.2,2.25 10.2,1.25 ; 9.95,1.5 12.7,2.25 13.95,2.25 13.95,3.25 ; 12.7,-2.25 13.95,-2.25 13.95,-3.25 ; 20.45,-3.25 20.45,-2.25 21.7,-2.25 24.2,-1.25 ; 20.45,3.25 20.45,2.25 21.7,2.25 24.2,1.25 ; 24.2,-2.25 25.45,-2.25 25.45,-3.25 ; 24.2,2.25 25.45,2.25 25.45,3.25 ; -27.5,-7.75 ccw(c-27,-7.75) -27,-8.25 27,-8.25 ccw(c27,-7.75) 27.5,-7.75 27.5,7.75 ccw(c27,7.75) 27,8.25 -27,8.25 ccw(c-27,7.75) -27.5,7.75 -27.5,-7.75 ; -22,-0.5 -22,0.5 -20,0.5 -20,-0.5 -22,-0.5
3D body "REL_TYCO_SCHRACK_SR6A6K24.stp": height 16.5, standoff -3.3, extent -27.5,-8.25 27.5,8.25

## RELS_FINDER_94.12 [mm] "Graphical Model for Relay Socket, FINDER_94.12 Serie (Do Not Use Alone, Use Only With Relay)"
height 11.5
pads (2):
  round 1.5 smd paste-0.76 mask-0.76: 13(6.6,-7.25) 14(-6.6,-7.25)
Top Overlay:
  lines w0.2: -2,-14.75 -2,-14.25 2,-14.25 2,-14.75 ; -2,14.75 -2,14.25 2,14.25 2,14.75 ; -1,-14.25 -1,-14.75 -9.75,-14.75 cw(c-9.75,-13.75) -10.75,-13.75 -10.75,13.75 cw(c-9.75,13.75) -9.75,14.75 -1,14.75 -1,14.25 ; 1,-14.25 1,-14.75 9.75,-14.75 ccw(c9.75,-13.75) 10.75,-13.75 10.75,13.75 ccw(c9.75,13.75) 9.75,14.75 1,14.75 1,14.25
Mechanical 8:
  lines w0.1: -7.6,-7.25 -6.6,-7.25 -6.6,-8.25 ; -7.6,-0.95 -6.6,-0.95 -6.6,-1.95 ; -7.6,5.35 -6.6,5.35 -6.6,4.35 ; -7.6,9.45 -6.6,9.45 -6.6,8.45 ; 5.6,-7.25 6.6,-7.25 6.6,-8.25 ; 5.6,-0.95 6.6,-0.95 6.6,-1.95 ; 5.6,5.35 6.6,5.35 6.6,4.35 ; 5.6,9.45 6.6,9.45 6.6,8.45
  text "A1" at 9.35,-8.25 h1.5
  text "11" at 9.35,-1.7 h1.5
  text "12" at 9.35,8.45 h1.5
  text "14" at 9.35,4.35 h1.5
  text "13" at 5.35,-8.25 h1.5
  text "9" at 5.35,-1.45 h1.5
  text "1" at 5.35,9.2 h1.5
  text "5" at 5.35,4.85 h1.5
  text "14" at -3.85,-8.25 h1.5
  text "12" at -3.85,-1.95 h1.5
  text "4" at -3.85,8.95 h1.5
  text "8" at -3.85,4.85 h1.5
  text "A2" at -7.85,-8.5 h1.5
  text "41" at -7.85,-1.95 h1.5
  text "42" at -7.85,8.2 h1.5
  text "44" at -7.85,4.1 h1.5
  text "Must be Used with FINDER 55.32 Relay" at 2.54,-12.7 h0.95
Mechanical 14:
  lines w0.1: -2,-14.75 -2,-14.25 2,-14.25 2,-14.75 ; -2,14.75 -2,14.25 2,14.25 2,14.75 ; -1,-14.25 -1,-14.75 -9.75,-14.75 cw(c-9.75,-13.75) -10.75,-13.75 -10.75,13.75 cw(c-9.75,13.75) -9.75,14.75 -1,14.75 -1,14.25 ; 1,-14.25 1,-14.75 9.75,-14.75 ccw(c9.75,-13.75) 10.75,-13.75 10.75,13.75 ccw(c9.75,13.75) 9.75,14.75 1,14.75 1,14.25 ; -8.101,-8.45 -5.101,-8.45 -5.101,-6.05 -8.101,-6.05 -8.101,-8.45 ; -8.101,-2.15 -5.101,-2.15 -5.101,0.25 -8.101,0.25 -8.101,-2.15 ; -8.101,4.15 -5.101,4.15 -5.101,6.55 -8.101,6.55 -8.101,4.15 ; -8.101,8.25 -5.101,8.25 -5.101,10.65 -8.101,10.65 -8.101,8.25 ; 5.1,-8.45 8.1,-8.45 8.1,-6.05 5.1,-6.05 5.1,-8.45 ; 5.1,-2.15 8.1,-2.15 8.1,0.25 5.1,0.25 5.1,-2.15 ; 5.1,4.15 8.1,4.15 8.1,6.55 5.1,6.55 5.1,4.15 ; 5.1,8.25 8.1,8.25 8.1,10.65 5.1,10.65 5.1,8.25
3D body "RELS_FINDER_94.12.stp": height 11.5, standoff -3.7, extent -10.749,-14.75 10.751,14.75

## RELS_FINDER_94.12_a [mm] "8 Leads Relay Socket, Row Spacing 13.2mm; Body 21.5mm x 29.5mm, FINDER_94.12 Serie (Use Only Without Relay)"
height 11.5
pads (8):
  round 2.5 hole 1.5: 1(6.6,9.45) 4(-6.6,9.45) 5(6.6,5.35) 8(-6.6,5.35) 9(6.6,-0.95) 12(-6.6,-0.95) 13(6.6,-7.25) 14(-6.6,-7.25)
Top Overlay:
  lines w0.2: -2,-14.75 -2,-14.25 2,-14.25 2,-14.75 ; -2,14.75 -2,14.25 2,14.25 2,14.75 ; -1,-14.25 -1,-14.75 -9.75,-14.75 cw(c-9.75,-13.75) -10.75,-13.75 -10.75,13.75 cw(c-9.75,13.75) -9.75,14.75 -1,14.75 -1,14.25 ; 1,-14.25 1,-14.75 9.75,-14.75 ccw(c9.75,-13.75) 10.75,-13.75 10.75,13.75 ccw(c9.75,13.75) 9.75,14.75 1,14.75 1,14.25
Mechanical 8:
  lines w0.1: -7.6,-7.25 -6.6,-7.25 -6.6,-8.25 ; -7.6,-0.95 -6.6,-0.95 -6.6,-1.95 ; -7.6,5.35 -6.6,5.35 -6.6,4.35 ; -7.6,9.45 -6.6,9.45 -6.6,8.45 ; -1,0 0,0 0,-1 ; 5.6,-7.25 6.6,-7.25 6.6,-8.25 ; 5.6,-0.95 6.6,-0.95 6.6,-1.95 ; 5.6,5.35 6.6,5.35 6.6,4.35 ; 5.6,9.45 6.6,9.45 6.6,8.45
  text "44" at -7.85,4.1 h1.5
  text "42" at -7.85,8.2 h1.5
  text "41" at -7.85,-1.95 h1.5
  text "A2" at -7.85,-8.5 h1.5
  text "8" at -3.85,4.85 h1.5
  text "4" at -3.85,8.95 h1.5
  text "12" at -3.85,-1.95 h1.5
  text "14" at -3.85,-8.25 h1.5
  text "5" at 5.35,4.85 h1.5
  text "1" at 5.35,9.2 h1.5
  text "9" at 5.35,-1.45 h1.5
  text "13" at 5.35,-8.25 h1.5
  text "14" at 9.35,4.35 h1.5
  text "12" at 9.35,8.45 h1.5
  text "11" at 9.35,-1.7 h1.5
  text "A1" at 9.35,-8.25 h1.5
Mechanical 14:
  lines w0.1: -2,-14.75 -2,-14.25 2,-14.25 2,-14.75 ; -2,14.75 -2,14.25 2,14.25 2,14.75 ; -1,-14.25 -1,-14.75 -9.75,-14.75 cw(c-9.75,-13.75) -10.75,-13.75 -10.75,13.75 cw(c-9.75,13.75) -9.75,14.75 -1,14.75 -1,14.25 ; 1,-14.25 1,-14.75 9.75,-14.75 ccw(c9.75,-13.75) 10.75,-13.75 10.75,13.75 ccw(c9.75,13.75) 9.75,14.75 1,14.75 1,14.25 ; -8.101,-8.45 -8.101,-6.05 -5.101,-6.05 -5.101,-8.45 -8.101,-8.45 ; -8.101,-2.15 -8.101,0.25 -5.101,0.25 -5.101,-2.15 -8.101,-2.15 ; -8.101,4.15 -8.101,6.55 -5.101,6.55 -5.101,4.15 -8.101,4.15 ; -8.101,8.25 -8.101,10.65 -5.101,10.65 -5.101,8.25 -8.101,8.25 ; 5.1,-8.45 5.1,-6.05 8.1,-6.05 8.1,-8.45 5.1,-8.45 ; 5.1,-2.15 5.1,0.25 8.1,0.25 8.1,-2.15 5.1,-2.15 ; 5.1,4.15 5.1,6.55 8.1,6.55 8.1,4.15 5.1,4.15 ; 5.1,8.25 5.1,10.65 8.1,10.65 8.1,8.25 5.1,8.25
3D body "RELS_FINDER_94.12.stp": height 11.5, standoff -3.7, extent -10.749,-14.75 10.751,14.75